# EAGLE library part MAX31856 (library FlashPCB_ICs)
MAX31856MUD+T - IC CONV THERMOCOUPLE 14TSSOP Technical Specifications: Thermocouple Scale: -20ÃƒÆ’Ã¢â‚¬Å¡Ãƒâ€šÃ‚Â°C to 85ÃƒÆ’Ã¢â‚¬Å¡Ãƒâ€šÃ‚Â°C Resolution: 19-bit .0078125ÃƒÆ’Ã¢â‚¬Å¡Ãƒâ€šÃ‚Â°C Component Search: [DATA SHEET NAME] <[FLASHPCB URL]> Datasheet: MAX31856 <https://datasheets.maximintegrated.com/en/ds/MAX31856.pdf>
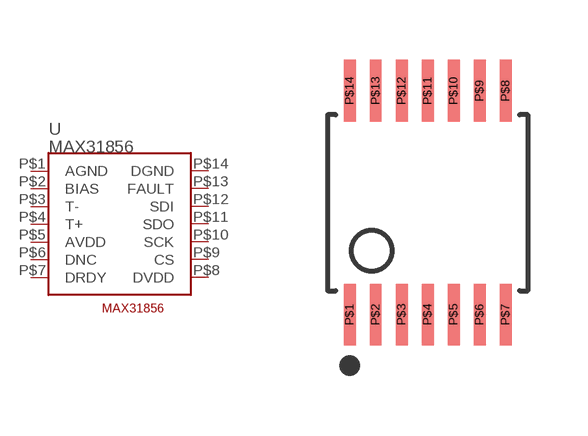
[diagram p57: symbol with the pads of 14-TSSOP(4.4MMX5.0MM); footprint 14-TSSOP(4.4MMX5.0MM)]

Designator prefix U

## MAX31856  [14-TSSOP(4.4MMX5.0MM)]
P$1  AGND  pwr
P$2  BIAS  in
P$3  T-  in
P$4  T+  in
P$5  AVDD  pwr
P$6  DNC  nc
P$7  DRDY
P$8  DVDD
P$9  CS
P$10  SCK
P$11  SDO
P$12  SDI
P$13  FAULT
P$14  DGND  pwr

## Footprint 14-TSSOP(4.4MMX5.0MM) (pad centres in mm)
smd 0.3 x 1.55: P$1 -1.95,-2.8; P$2 -1.3,-2.8; P$3 -0.65,-2.8; P$4 0,-2.8; P$5 0.65,-2.8; P$6 1.3,-2.8; P$7 1.95,-2.8; P$8 1.95,2.8; P$9 1.3,2.8; P$10 0.65,2.8; P$11 0,2.8; P$12 -0.65,2.8; P$13 -1.3,2.8; P$14 -1.95,2.8